# Altium schematic symbol library Blinky.SchLib: 3 symbols
Pins are listed as number, name and electrical type; pins without a type are passive.

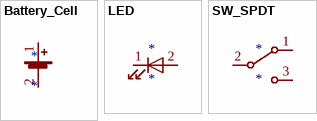
[diagram p0: symbols Battery_Cell to SW_SPDT]

## Battery_Cell
designator *
pins: 1 +, 2 -

## LED
designator *
pins: 1 K, 2 A

## SW_SPDT
designator *
pins: 1 A, 2 B, 3 C